# EAGLE library part MSP430FR4133IG56R (library MSP430FR4133IG56R)
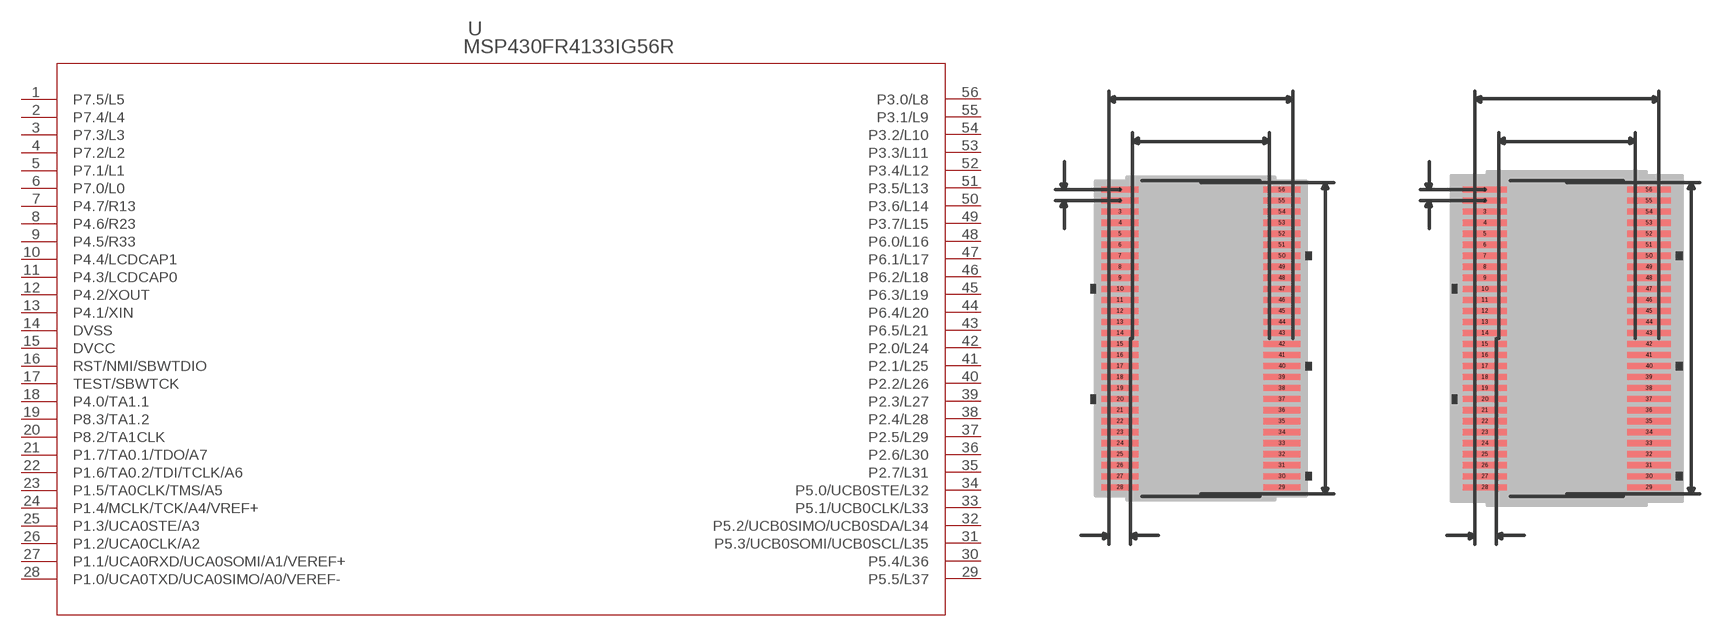
[diagram p0: symbol with the pads of DGG56; footprints DGG56, DGG56-M]

Designator prefix U

## MSP430FR4133IG56R (MANUFACTURER_PART_NUMBER: MSP430FR4133IG56R; VENDOR: Texas Instruments)  [DGG56]
1  P7.5/L5
2  P7.4/L4
3  P7.3/L3
4  P7.2/L2
5  P7.1/L1
6  P7.0/L0
7  P4.7/R13
8  P4.6/R23
9  P4.5/R33
10  P4.4/LCDCAP1
11  P4.3/LCDCAP0
12  P4.2/XOUT
13  P4.1/XIN
14  DVSS  pwr
15  DVCC  pwr
16  RST/NMI/SBWTDIO
17  TEST/SBWTCK  in
18  P4.0/TA1.1
19  P8.3/TA1.2
20  P8.2/TA1CLK
21  P1.7/TA0.1/TDO/A7
22  P1.6/TA0.2/TDI/TCLK/A6
23  P1.5/TA0CLK/TMS/A5
24  P1.4/MCLK/TCK/A4/VREF+
25  P1.3/UCA0STE/A3
26  P1.2/UCA0CLK/A2
27  P1.1/UCA0RXD/UCA0SOMI/A1/VEREF+
28  P1.0/UCA0TXD/UCA0SIMO/A0/VEREF-
29  P5.5/L37
30  P5.4/L36
31  P5.3/UCB0SOMI/UCB0SCL/L35
32  P5.2/UCB0SIMO/UCB0SDA/L34
33  P5.1/UCB0CLK/L33
34  P5.0/UCB0STE/L32
35  P2.7/L31
36  P2.6/L30
37  P2.5/L29
38  P2.4/L28
39  P2.3/L27
40  P2.2/L26
41  P2.1/L25
42  P2.0/L24
43  P6.5/L21
44  P6.4/L20
45  P6.3/L19
46  P6.2/L18
47  P6.1/L17
48  P6.0/L16
49  P3.7/L15
50  P3.6/L14
51  P3.5/L13
52  P3.4/L12
53  P3.3/L11
54  P3.2/L10
55  P3.1/L9
56  P3.0/L8

## MSP430FR4133IG56RDGG56-M (MANUFACTURER_PART_NUMBER: MSP430FR4133IG56R; VENDOR: Texas Instruments)  [DGG56-M]
Pads as for DGG56

## MSP430FR4133IG56RDGG56-L (MANUFACTURER_PART_NUMBER: MSP430FR4133IG56R; VENDOR: Texas Instruments)  [DGG56-L]
Pads as for DGG56

## MSP430FR4133IG56RDGG56-CLEAN  [DGG56_CLEAN]
Pads as for DGG56

## Footprint DGG56 (pad centres in mm)
smd 1.676 x 0.279: 1 -3.67,6.75; 2 -3.67,6.25; 3 -3.67,5.75; 4 -3.67,5.25; 5 -3.67,4.75; 6 -3.67,4.25; 7 -3.67,3.75; 8 -3.67,3.25; 9 -3.67,2.75; 10 -3.67,2.25; 11 -3.67,1.75; 12 -3.67,1.25; 13 -3.67,0.75; 14 -3.67,0.25; 15 -3.67,-0.25; 16 -3.67,-0.75; 17 -3.67,-1.25; 18 -3.67,-1.75; 19 -3.67,-2.25; 20 -3.67,-2.75; 21 -3.67,-3.25; 22 -3.67,-3.75; 23 -3.67,-4.25; 24 -3.67,-4.75; 25 -3.67,-5.25; 26 -3.67,-5.75; 27 -3.67,-6.25; 28 -3.67,-6.75; 29 3.67,-6.75; 30 3.67,-6.25; 31 3.67,-5.75; 32 3.67,-5.25; 33 3.67,-4.75; 34 3.67,-4.25; 35 3.67,-3.75; 36 3.67,-3.25; 37 3.67,-2.75; 38 3.67,-2.25; 39 3.67,-1.75; 40 3.67,-1.25; 41 3.67,-0.75; 42 3.67,-0.25; 43 3.67,0.25; 44 3.67,0.75; 45 3.67,1.25; 46 3.67,1.75; 47 3.67,2.25; 48 3.67,2.75; 49 3.67,3.25; 50 3.67,3.75; 51 3.67,4.25; 52 3.67,4.75; 53 3.67,5.25; 54 3.67,5.75; 55 3.67,6.25; 56 3.67,6.75

## Footprint DGG56-M (pad centres in mm)
smd 1.981 x 0.279: 1 -3.721,6.75; 2 -3.721,6.25; 3 -3.721,5.75; 4 -3.721,5.25; 5 -3.721,4.75; 6 -3.721,4.25; 7 -3.721,3.75; 8 -3.721,3.25; 9 -3.721,2.75; 10 -3.721,2.25; 11 -3.721,1.75; 12 -3.721,1.25; 13 -3.721,0.75; 14 -3.721,0.25; 15 -3.721,-0.25; 16 -3.721,-0.75; 17 -3.721,-1.25; 18 -3.721,-1.75; 19 -3.721,-2.25; 20 -3.721,-2.75; 21 -3.721,-3.25; 22 -3.721,-3.75; 23 -3.721,-4.25; 24 -3.721,-4.75; 25 -3.721,-5.25; 26 -3.721,-5.75; 27 -3.721,-6.25; 28 -3.721,-6.75; 29 3.721,-6.75; 30 3.721,-6.25; 31 3.721,-5.75; 32 3.721,-5.25; 33 3.721,-4.75; 34 3.721,-4.25; 35 3.721,-3.75; 36 3.721,-3.25; 37 3.721,-2.75; 38 3.721,-2.25; 39 3.721,-1.75; 40 3.721,-1.25; 41 3.721,-0.75; 42 3.721,-0.25; 43 3.721,0.25; 44 3.721,0.75; 45 3.721,1.25; 46 3.721,1.75; 47 3.721,2.25; 48 3.721,2.75; 49 3.721,3.25; 50 3.721,3.75; 51 3.721,4.25; 52 3.721,4.75; 53 3.721,5.25; 54 3.721,5.75; 55 3.721,6.25; 56 3.721,6.75

## Footprint DGG56-L (pad centres in mm)
smd 1.372 x 0.279: 1 -3.619,6.75; 2 -3.619,6.25; 3 -3.619,5.75; 4 -3.619,5.25; 5 -3.619,4.75; 6 -3.619,4.25; 7 -3.619,3.75; 8 -3.619,3.25; 9 -3.619,2.75; 10 -3.619,2.25; 11 -3.619,1.75; 12 -3.619,1.25; 13 -3.619,0.75; 14 -3.619,0.25; 15 -3.619,-0.25; 16 -3.619,-0.75; 17 -3.619,-1.25; 18 -3.619,-1.75; 19 -3.619,-2.25; 20 -3.619,-2.75; 21 -3.619,-3.25; 22 -3.619,-3.75; 23 -3.619,-4.25; 24 -3.619,-4.75; 25 -3.619,-5.25; 26 -3.619,-5.75; 27 -3.619,-6.25; 28 -3.619,-6.75; 29 3.619,-6.75; 30 3.619,-6.25; 31 3.619,-5.75; 32 3.619,-5.25; 33 3.619,-4.75; 34 3.619,-4.25; 35 3.619,-3.75; 36 3.619,-3.25; 37 3.619,-2.75; 38 3.619,-2.25; 39 3.619,-1.75; 40 3.619,-1.25; 41 3.619,-0.75; 42 3.619,-0.25; 43 3.619,0.25; 44 3.619,0.75; 45 3.619,1.25; 46 3.619,1.75; 47 3.619,2.25; 48 3.619,2.75; 49 3.619,3.25; 50 3.619,3.75; 51 3.619,4.25; 52 3.619,4.75; 53 3.619,5.25; 54 3.619,5.75; 55 3.619,6.25; 56 3.619,6.75

## Footprint DGG56_CLEAN (pad centres in mm)
smd 1.676 x 0.279: 1 -3.67,6.75; 2 -3.67,6.25; 3 -3.67,5.75; 4 -3.67,5.25; 5 -3.67,4.75; 6 -3.67,4.25; 7 -3.67,3.75; 8 -3.67,3.25; 9 -3.67,2.75; 10 -3.67,2.25; 11 -3.67,1.75; 12 -3.67,1.25; 13 -3.67,0.75; 14 -3.67,0.25; 15 -3.67,-0.25; 16 -3.67,-0.75; 17 -3.67,-1.25; 18 -3.67,-1.75; 19 -3.67,-2.25; 20 -3.67,-2.75; 21 -3.67,-3.25; 22 -3.67,-3.75; 23 -3.67,-4.25; 24 -3.67,-4.75; 25 -3.67,-5.25; 26 -3.67,-5.75; 27 -3.67,-6.25; 28 -3.67,-6.75; 29 3.67,-6.75; 30 3.67,-6.25; 31 3.67,-5.75; 32 3.67,-5.25; 33 3.67,-4.75; 34 3.67,-4.25; 35 3.67,-3.75; 36 3.67,-3.25; 37 3.67,-2.75; 38 3.67,-2.25; 39 3.67,-1.75; 40 3.67,-1.25; 41 3.67,-0.75; 42 3.67,-0.25; 43 3.67,0.25; 44 3.67,0.75; 45 3.67,1.25; 46 3.67,1.75; 47 3.67,2.25; 48 3.67,2.75; 49 3.67,3.25; 50 3.67,3.75; 51 3.67,4.25; 52 3.67,4.75; 53 3.67,5.25; 54 3.67,5.75; 55 3.67,6.25; 56 3.67,6.75